# Altium integrated library RF Micro IF Amplifier.IntLib: 10 symbols
Pins are listed as number, name and electrical type; pins without a type are passive.

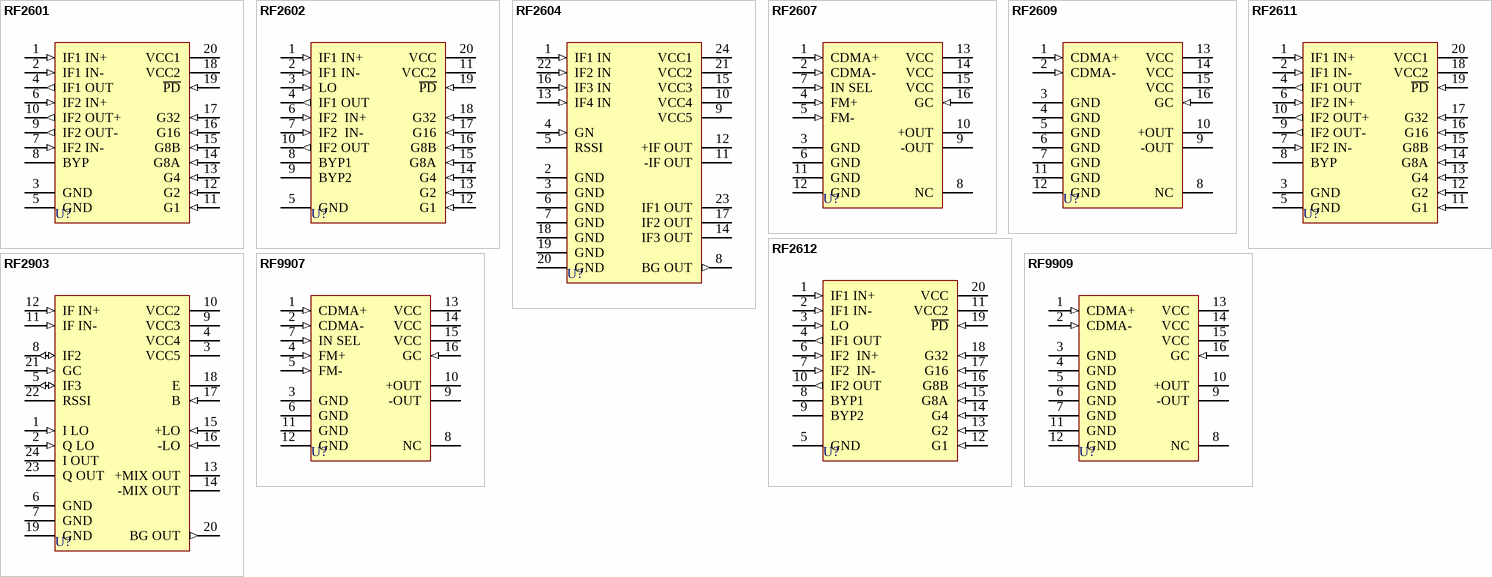
[diagram p0: symbols RF2601 to RF9909]

## RF2601
designator U?
Gain Controlled IF Amplifier; Published: 8-Jun-2000; LatestRevisionDate: 13-Apr-2006; LatestRevisionNote: IPC-7351 Footprint Added.; DatasheetVersion: Apr-1997; PackageVersion: 1997; PackageReference: SOP-20; Publisher: Altium Limited; PackageDescription: 20-Pin Small Outline Integrated Circuit 1.27 mm Pitch; ComponentLink1Description: Manufacturer Link; ComponentLink1URL: http://www.rfmd.com/
footprint SOP-20_N (SOIC, 20-Leads, Body 12.7x7.5mm, Pitch 1.27mm, IPC Medium Density)
footprint SOP-20_L (SOIC, 20-Leads, Body 12.7x7.5mm, Pitch 1.27mm, IPC High Density)
footprint SOP-20_M (SOIC, 20-Leads, Body 12.7x7.5mm, Pitch 1.27mm, IPC Low Density)
pins: 1 IF1 IN+ (in), 2 IF1 IN- (in), 3 GND (power), 4 IF1 OUT (out), 5 GND (power), 6 IF2 IN+ (in), 7 IF2 IN- (in), 8 BYP, 9 IF2 OUT- (out), 10 IF2 OUT+ (out), 11 G1 (in), 12 G2 (in), 13 G4 (in), 14 G8A (in), 15 G8B (in), 16 G16 (in), 17 G32 (in), 18 VCC2 (power), 19 ~{PD} (in), 20 VCC1 (power)

## RF2602
designator U?
Gain Controlled IF Amplifier; Published: 8-Jun-2000; LatestRevisionDate: 13-Apr-2006; LatestRevisionNote: IPC-7351 Footprint Added.; DatasheetVersion: Apr-1997; PackageVersion: 1997; PackageReference: SOP-20; Publisher: Altium Limited; PackageDescription: 20-Pin Small Outline Integrated Circuit 1.27 mm Pitch; ComponentLink1Description: Manufacturer Link; ComponentLink1URL: http://www.rfmd.com/
footprint SOP-20_N (SOIC, 20-Leads, Body 12.7x7.5mm, Pitch 1.27mm, IPC Medium Density)
footprint SOP-20_L (SOIC, 20-Leads, Body 12.7x7.5mm, Pitch 1.27mm, IPC High Density)
footprint SOP-20_M (SOIC, 20-Leads, Body 12.7x7.5mm, Pitch 1.27mm, IPC Low Density)
pins: 1 IF1 IN+ (in), 2 IF1 IN- (in), 3 LO (in), 4 IF1 OUT (out), 5 GND (power), 6 IF2  IN+ (in), 7 IF2  IN- (in), 8 BYP1, 9 BYP2, 10 IF2 OUT (out), 11 VCC2 (power), 12 G1 (in), 13 G2 (in), 14 G4 (in), 15 G8A (in), 16 G8B (in), 17 G16 (in), 18 G32 (in), 19 ~{PD} (in), 20 VCC (power)

## RF2604
designator U?
Linear IF Amplifier With AGC and RSSI; Published: 8-Jun-2000; LatestRevisionDate: 17-Jul-2002; LatestRevisionNote: Re-released for DXP Platform.; DatasheetVersion: Apr-1997; PackageVersion: 1997; PackageReference: SSOP-24; Publisher: Altium Limited; PackageDescription: SSOP; 24 Leads; Body Width 3.9 mm; Pitch 0.64 mm; ComponentLink1Description: Manufacturer Link; ComponentLink1URL: http://www.rfmd.com/
footprint SSOP-24 (SSOP; 24 Leads; Body Width 3.9 mm; Pitch 0.64 mm)
pins: 1 IF1 IN (in), 2 GND (power), 3 GND (power), 4 GN (in), 5 RSSI (oe), 6 GND (power), 7 GND (power), 8 BG OUT (out), 9 VCC5 (power), 10 VCC4 (power), 11 -IF OUT (oe), 12 +IF OUT (oe), 13 IF4 IN (in), 14 IF3 OUT (oc), 15 VCC3 (power), 16 IF3 IN (in), 17 IF2 OUT (oc), 18 GND (power), 19 GND (power), 20 GND (power), 21 VCC2 (power), 22 IF2 IN (in), 23 IF1 OUT (oc), 24 VCC1 (power)

## RF2607
designator U?
CDMA/FM Receive AGC Amplifier; Note: Pin(s) 8 "No Connection".; ComponentAvailability: Not for New Design; Published: 8-Jun-2000; LatestRevisionDate: 17-Jul-2002; LatestRevisionNote: Re-released for DXP Platform.; DatasheetVersion: Rev. B3; PackageVersion: 1997; PackageReference: SSOP-16; Publisher: Altium Limited; PackageDescription: SSOP; 16 Leads; Body Width 3.9 mm; Pitch 0.64 mm; ComponentLink1Description: Manufacturer Link; ComponentLink1URL: http://www.rfmd.com/; ComponentLink2Description: Datasheet; ComponentLink2URL: http://www.rfmd.com/DataBooks/db97/2607.pdf
footprint SSOP-16 (SSOP; 16 Leads; Body Width 3.9 mm; Pitch 0.64 mm)
pins: 1 CDMA+ (in), 2 CDMA- (in), 3 GND (power), 4 FM+ (in), 5 FM- (in), 6 GND (power), 7 IN SEL (in), 8 NC, 9 -OUT (oc), 10 +OUT (oc), 11 GND (power), 12 GND (power), 13 VCC (power), 14 VCC (power), 15 VCC (power), 16 GC (in)

## RF2609
designator U?
CDMA/FM Transmit AGC Amplifier; Note: Pin(s) 8 "No Connection".; ComponentAvailability: Not for New Design; Published: 8-Jun-2000; LatestRevisionDate: 17-Jul-2002; LatestRevisionNote: Re-released for DXP Platform.; DatasheetVersion: Rev. B4; PackageVersion: 1997; PackageReference: SSOP-16; Publisher: Altium Limited; PackageDescription: SSOP; 16 Leads; Body Width 3.9 mm; Pitch 0.64 mm; ComponentLink1Description: Manufacturer Link; ComponentLink1URL: http://www.rfmd.com/; ComponentLink2Description: Datasheet; ComponentLink2URL: http://www.rfmd.com/DataBooks/db97/2609.pdf
footprint SSOP-16 (SSOP; 16 Leads; Body Width 3.9 mm; Pitch 0.64 mm)
pins: 1 CDMA+ (in), 2 CDMA- (in), 3 GND (power), 4 GND (power), 5 GND (power), 6 GND (power), 7 GND (power), 8 NC, 9 -OUT (oc), 10 +OUT (oc), 11 GND (power), 12 GND (power), 13 VCC (power), 14 VCC (power), 15 VCC (power), 16 GC (in)

## RF2611
designator U?
Gain Controlled IF Amplifier; Published: 8-Jun-2000; LatestRevisionDate: 13-Apr-2006; LatestRevisionNote: IPC-7351 Footprint Added.; DatasheetVersion: Apr-1997; PackageVersion: 1997; PackageReference: SOP-20; Publisher: Altium Limited; PackageDescription: 20-Pin Small Outline Integrated Circuit 1.27 mm Pitch; ComponentLink1Description: Manufacturer Link; ComponentLink1URL: http://www.rfmd.com/
footprint SOP-20_N (SOIC, 20-Leads, Body 12.7x7.5mm, Pitch 1.27mm, IPC Medium Density)
footprint SOP-20_L (SOIC, 20-Leads, Body 12.7x7.5mm, Pitch 1.27mm, IPC High Density)
footprint SOP-20_M (SOIC, 20-Leads, Body 12.7x7.5mm, Pitch 1.27mm, IPC Low Density)
pins: 1 IF1 IN+ (in), 2 IF1 IN- (in), 3 GND (power), 4 IF1 OUT (out), 5 GND (power), 6 IF2 IN+ (in), 7 IF2 IN- (in), 8 BYP, 9 IF2 OUT- (out), 10 IF2 OUT+ (out), 11 G1 (in), 12 G2 (in), 13 G4 (in), 14 G8A (in), 15 G8B (in), 16 G16 (in), 17 G32 (in), 18 VCC2 (power), 19 ~{PD} (in), 20 VCC1 (power)

## RF2612
designator U?
Gain Controlled IF Amplifier; Published: 8-Jun-2000; LatestRevisionDate: 13-Apr-2006; LatestRevisionNote: IPC-7351 Footprint Added.; DatasheetVersion: Apr-1997; PackageVersion: 1997; PackageReference: SOP-20; Publisher: Altium Limited; PackageDescription: 20-Pin Small Outline Integrated Circuit 1.27 mm Pitch; ComponentLink1Description: Manufacturer Link; ComponentLink1URL: http://www.rfmd.com/
footprint SOP-20_N (SOIC, 20-Leads, Body 12.7x7.5mm, Pitch 1.27mm, IPC Medium Density)
footprint SOP-20_L (SOIC, 20-Leads, Body 12.7x7.5mm, Pitch 1.27mm, IPC High Density)
footprint SOP-20_M (SOIC, 20-Leads, Body 12.7x7.5mm, Pitch 1.27mm, IPC Low Density)
pins: 1 IF1 IN+ (in), 2 IF1 IN- (in), 3 LO (in), 4 IF1 OUT (out), 5 GND (power), 6 IF2  IN+ (in), 7 IF2  IN- (in), 8 BYP1, 9 BYP2, 10 IF2 OUT (out), 11 VCC2 (power), 12 G1 (in), 13 G2 (in), 14 G4 (in), 15 G8A (in), 16 G8B (in), 17 G16 (in), 18 G32 (in), 19 ~{PD} (in), 20 VCC (power)

## RF2903
designator U?
Integrated Spread Spectrum Receiver; Published: 8-Jun-2000; LatestRevisionDate: 17-Jul-2002; LatestRevisionNote: Re-released for DXP Platform.; DatasheetVersion: Apr-1997; PackageVersion: 1997; PackageReference: SSOP-24; Publisher: Altium Limited; PackageDescription: SSOP; 24 Leads; Body Width 3.9 mm; Pitch 0.64 mm; ComponentLink1Description: Manufacturer Link; ComponentLink1URL: http://www.rfmd.com/
footprint SSOP-24 (SSOP; 24 Leads; Body Width 3.9 mm; Pitch 0.64 mm)
pins: 1 I LO (in), 2 Q LO (in), 3 VCC5 (power), 4 VCC4 (power), 5 IF3 (io), 6 GND (power), 7 GND (power), 8 IF2 (io), 9 VCC3 (power), 10 VCC2 (power), 11 IF IN- (in), 12 IF IN+ (in), 13 +MIX OUT (oc), 14 -MIX OUT (oc), 15 +LO (in), 16 -LO (in), 17 B (in), 18 E (oe), 19 GND (power), 20 BG OUT (out), 21 GC (in), 22 RSSI (oe), 23 Q OUT (oe), 24 I OUT (oe)

## RF9907
designator U?
CDMA/FM Receive AGC Amplifier; Note: Pin(s) 8 "No Connection".; Published: 8-Jun-2000; LatestRevisionDate: 17-Jul-2002; LatestRevisionNote: Re-released for DXP Platform.; DatasheetVersion: Apr-1997; PackageVersion: 1997; PackageReference: SSOP-16; Publisher: Altium Limited; PackageDescription: SSOP; 16 Leads; Body Width 3.9 mm; Pitch 0.64 mm; ComponentLink1Description: Manufacturer Link; ComponentLink1URL: http://www.rfmd.com/
footprint SSOP-16 (SSOP; 16 Leads; Body Width 3.9 mm; Pitch 0.64 mm)
pins: 1 CDMA+ (in), 2 CDMA- (in), 3 GND (power), 4 FM+ (in), 5 FM- (in), 6 GND (power), 7 IN SEL (in), 8 NC, 9 -OUT (oc), 10 +OUT (oc), 11 GND (power), 12 GND (power), 13 VCC (power), 14 VCC (power), 15 VCC (power), 16 GC (in)

## RF9909
designator U?
CDMA/FM Transmit AGC Amplifier; Note: Pin(s) 8 "No Connection".; Published: 8-Jun-2000; LatestRevisionDate: 17-Jul-2002; LatestRevisionNote: Re-released for DXP Platform.; DatasheetVersion: Apr-1997; PackageVersion: 1997; PackageReference: SSOP-16; Publisher: Altium Limited; PackageDescription: SSOP; 16 Leads; Body Width 3.9 mm; Pitch 0.64 mm; ComponentLink1Description: Manufacturer Link; ComponentLink1URL: http://www.rfmd.com/
footprint SSOP-16 (SSOP; 16 Leads; Body Width 3.9 mm; Pitch 0.64 mm)
pins: 1 CDMA+ (in), 2 CDMA- (in), 3 GND (power), 4 GND (power), 5 GND (power), 6 GND (power), 7 GND (power), 8 NC, 9 -OUT (oc), 10 +OUT (oc), 11 GND (power), 12 GND (power), 13 VCC (power), 14 VCC (power), 15 VCC (power), 16 GC (in)